# EAGLE library part QFP64-0.5 (library ic-package)
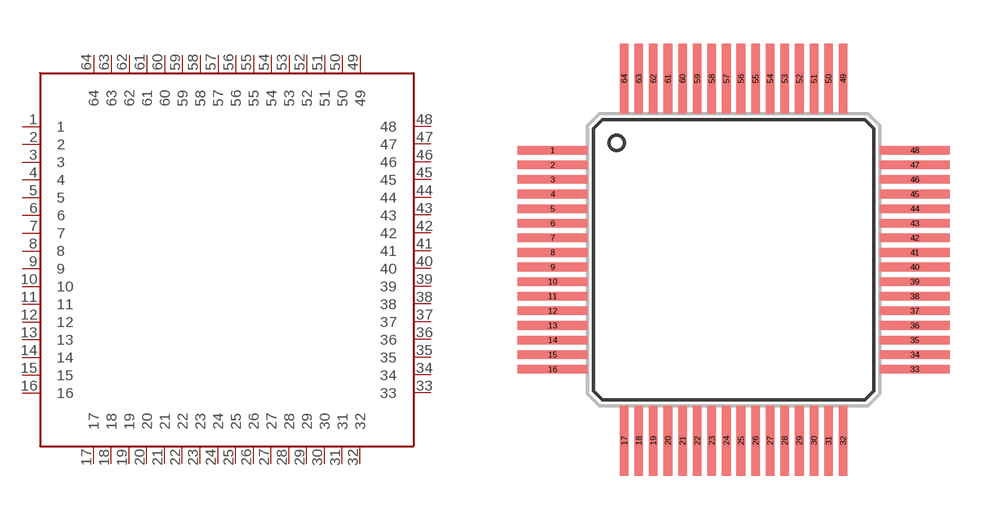
[diagram p1: symbol with the pads of QFP64-0.5; footprint QFP64-0.5]

Designator prefix U

## QFP64-0.5  [QFP64-0.5]
1  1  pas
2  2  pas
3  3  pas
4  4  pas
5  5  pas
6  6  pas
7  7  pas
8  8  pas
9  9  pas
10  10  pas
11  11  pas
12  12  pas
13  13  pas
14  14  pas
15  15  pas
16  16  pas
17  17  pas
18  18  pas
19  19  pas
20  20  pas
21  21  pas
22  22  pas
23  23  pas
24  24  pas
25  25  pas
26  26  pas
27  27  pas
28  28  pas
29  29  pas
30  30  pas
31  31  pas
32  32  pas
33  33  pas
34  34  pas
35  35  pas
36  36  pas
37  37  pas
38  38  pas
39  39  pas
40  40  pas
41  41  pas
42  42  pas
43  43  pas
44  44  pas
45  45  pas
46  46  pas
47  47  pas
48  48  pas
49  49  pas
50  50  pas
51  51  pas
52  52  pas
53  53  pas
54  54  pas
55  55  pas
56  56  pas
57  57  pas
58  58  pas
59  59  pas
60  60  pas
61  61  pas
62  62  pas
63  63  pas
64  64  pas

## Footprint QFP64-0.5 (pad centres in mm)
smd 2.4 x 0.297: 1 -6.2,3.75; 2 -6.2,3.25; 3 -6.2,2.75; 4 -6.2,2.25; 5 -6.2,1.75; 6 -6.2,1.25; 7 -6.2,0.75; 8 -6.2,0.25; 9 -6.2,-0.25; 10 -6.2,-0.75; 11 -6.2,-1.25; 12 -6.2,-1.75; 13 -6.2,-2.25; 14 -6.2,-2.75; 15 -6.2,-3.25; 16 -6.2,-3.75; 33 6.2,-3.75; 34 6.2,-3.25; 35 6.2,-2.75; 36 6.2,-2.25; 37 6.2,-1.75; 38 6.2,-1.25; 39 6.2,-0.75; 40 6.2,-0.25; 41 6.2,0.25; 42 6.2,0.75; 43 6.2,1.25; 44 6.2,1.75; 45 6.2,2.25; 46 6.2,2.75; 47 6.2,3.25; 48 6.2,3.75
smd 0.297 x 2.4: 17 -3.75,-6.2; 18 -3.25,-6.2; 19 -2.75,-6.2; 20 -2.25,-6.2; 21 -1.75,-6.2; 22 -1.25,-6.2; 23 -0.75,-6.2; 24 -0.25,-6.2; 25 0.25,-6.2; 26 0.75,-6.2; 27 1.25,-6.2; 28 1.75,-6.2; 29 2.25,-6.2; 30 2.75,-6.2; 31 3.25,-6.2; 32 3.75,-6.2; 49 3.75,6.2; 50 3.25,6.2; 51 2.75,6.2; 52 2.25,6.2; 53 1.75,6.2; 54 1.25,6.2; 55 0.75,6.2; 56 0.25,6.2; 57 -0.25,6.2; 58 -0.75,6.2; 59 -1.25,6.2; 60 -1.75,6.2; 61 -2.25,6.2; 62 -2.75,6.2; 63 -3.25,6.2; 64 -3.75,6.2